# Altium footprint library can-rs232.PcbLib: 35 footprints (part 3 of 3)
Each footprint in its own frame and in the unit in brackets; x right, y up, seen from the top. Pads: shape width x height; smd on the part's side, far side on the other; paste and mask are expansions set on the pad; w line width, h text height; cw(c..) or ccw(c..) is an arc to the next point about the centre after c.
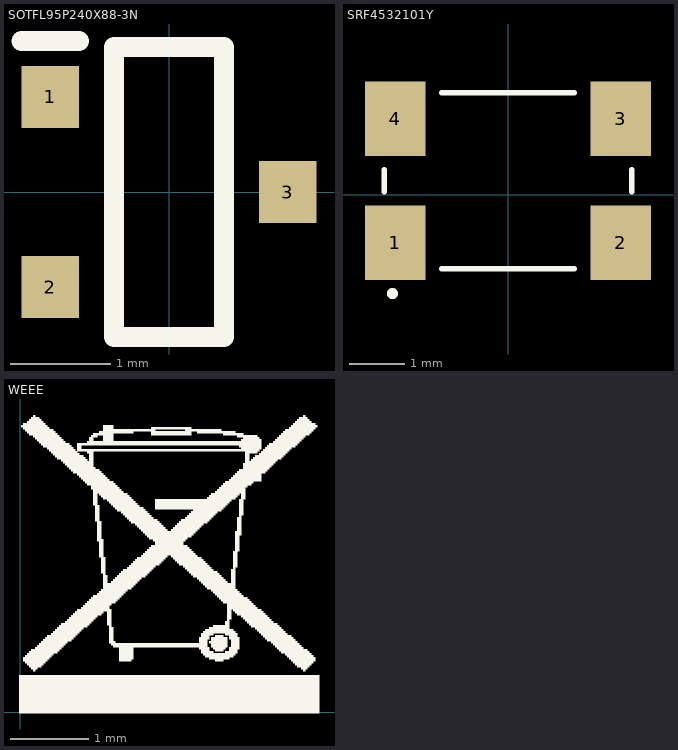
[diagram p2: the footprints below, top view; thin cyan lines are the x and y axes]

## SOTFL95P240X88-3N [mm] "SOTFL95P240X88-3N"
pads (3):
  rect 0.575x0.62 smd: 1(-1.188,0.95) 2(-1.188,-0.95) 3(1.188,0)
Top Overlay:
  lines w0.2: -1.475,1.51 -0.9,1.51 ; -0.55,-1.45 -0.55,1.45 0.55,1.45 0.55,-1.45 -0.55,-1.45
3D body "SOT23-3.stp": height 1.11, standoff -0.07, extent -1.418,-1.5 1.418,1.5

## SRF4532101Y [mm] "SRF4532101Y"
pads (4):
  rect 1.1x1.35 smd: 1(-2.05,-0.875) 2(2.05,-0.875) 3(2.05,1.375) 4(-2.05,1.375)
Top Overlay:
  lines w0.1: -2.25,0.05 -2.25,0.45 ; -1.2,-1.35 1.2,-1.35 ; -1.2,1.85 1.2,1.85 ; 2.25,0.05 2.25,0.45 ; -2.1,-1.85 ccw(c-2.1,-1.8) -2.1,-1.75 ccw(c-2.1,-1.8) -2.1,-1.85
3D body: height 2.8, standoff 0, extent -2.25,-1.35 2.25,1.85

## WEEE [mm] "WEEE"
Top Overlay:
  drawing of 457 lines, arcs and shapes, not listed